# EAGLE library part ADS1299-4PAG (library ADS1299-4PAG)
Low-Noise, 8-Channel, 24-Bit Analog Front-End for Biopotential Measurements 64-TQFP
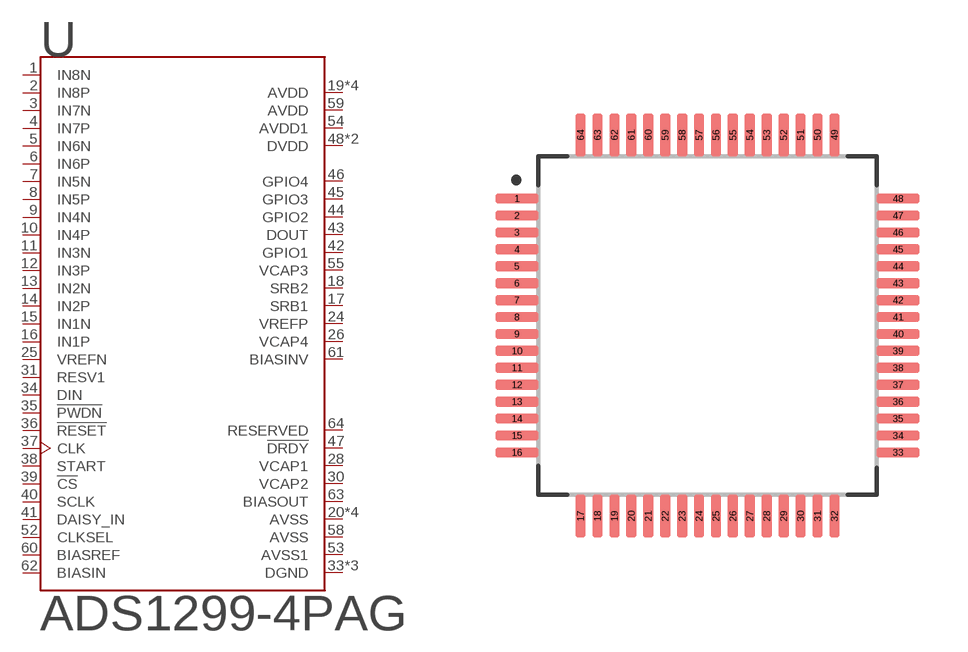
[diagram p0: symbol with the pads of QFP64P50_1200X1200X120L60X22N; footprint QFP64P50_1200X1200X120L60X22N]

Designator prefix U

## ADS1299-4PAG (Availability: Unavailable; Description: Low-Noise, 4-Channel, 24-Bit Analog-to-Digital Converter for Biopotential Measurements 64-TQFP -40 to 85; MF: Texas Instruments; MP: ADS1299-4PAG; Package: TQFP-64 Texas Instruments; Price: None)  [QFP64P50_1200X1200X120L60X22N]
1  IN8N  in
2  IN8P  in
3  IN7N  in
4  IN7P  in
5  IN6N  in
6  IN6P  in
7  IN5N  in
8  IN5P  in
9  IN4N  in
10  IN4P  in
11  IN3N  in
12  IN3P  in
13  IN2N  in
14  IN2P  in
15  IN1N  in
16  IN1P  in
17  SRB1
18  SRB2
19  AVDD  pwr
20  AVSS  pwr
21  AVDD  pwr
22  AVDD  pwr
23  AVSS  pwr
24  VREFP
25  VREFN  in
26  VCAP4
28  VCAP1  out
30  VCAP2  out
31  RESV1  in
32  AVSS  pwr
33  DGND  pwr
34  DIN  in
35  !PWDN  in
36  !RESET  in
37  CLK  in
38  START  in
39  !CS  in
40  SCLK  in
41  DAISY_IN  in
42  GPIO1
43  DOUT
44  GPIO2
45  GPIO3
46  GPIO4
47  !DRDY  out
48  DVDD  pwr
49  DGND  pwr
50  DVDD  pwr
51  DGND  pwr
52  CLKSEL  in
53  AVSS1  pwr
54  AVDD1  pwr
55  VCAP3
56  AVDD  pwr
57  AVSS  pwr
58  AVSS  pwr
59  AVDD  pwr
60  BIASREF  in
61  BIASINV
62  BIASIN  in
63  BIASOUT  out
64  RESERVED  out

## Footprint QFP64P50_1200X1200X120L60X22N (pad centres in mm)
smd 1.26 x 0.3: 1 -5.63,3.75; 2 -5.63,3.25; 3 -5.63,2.75; 4 -5.63,2.25; 5 -5.63,1.75; 6 -5.63,1.25; 7 -5.63,0.75; 8 -5.63,0.25; 9 -5.63,-0.25; 10 -5.63,-0.75; 11 -5.63,-1.25; 12 -5.63,-1.75; 13 -5.63,-2.25; 14 -5.63,-2.75; 15 -5.63,-3.25; 16 -5.63,-3.75; 33 5.63,-3.75; 34 5.63,-3.25; 35 5.63,-2.75; 36 5.63,-2.25; 37 5.63,-1.75; 38 5.63,-1.25; 39 5.63,-0.75; 40 5.63,-0.25; 41 5.63,0.25; 42 5.63,0.75; 43 5.63,1.25; 44 5.63,1.75; 45 5.63,2.25; 46 5.63,2.75; 47 5.63,3.25; 48 5.63,3.75
smd 0.3 x 1.26: 17 -3.75,-5.63; 18 -3.25,-5.63; 19 -2.75,-5.63; 20 -2.25,-5.63; 21 -1.75,-5.63; 22 -1.25,-5.63; 23 -0.75,-5.63; 24 -0.25,-5.63; 25 0.25,-5.63; 26 0.75,-5.63; 27 1.25,-5.63; 28 1.75,-5.63; 29 2.25,-5.63; 30 2.75,-5.63; 31 3.25,-5.63; 32 3.75,-5.63; 49 3.75,5.63; 50 3.25,5.63; 51 2.75,5.63; 52 2.25,5.63; 53 1.75,5.63; 54 1.25,5.63; 55 0.75,5.63; 56 0.25,5.63; 57 -0.25,5.63; 58 -0.75,5.63; 59 -1.25,5.63; 60 -1.75,5.63; 61 -2.25,5.63; 62 -2.75,5.63; 63 -3.25,5.63; 64 -3.75,5.63